# EAGLE library part ADAFRUIT-MAX31865 (library smoker-pid-control)
Adafruit MAX31865 RTD Sensor Breakout https://www.adafruit.com/product/3328
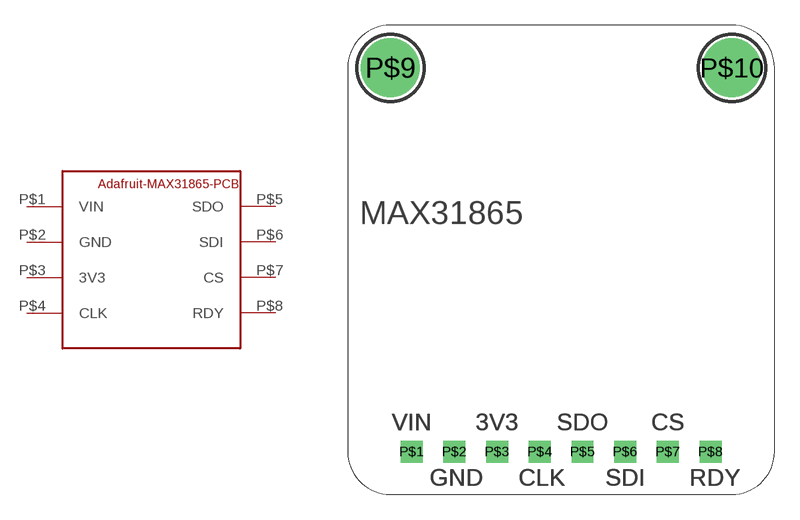
[diagram p1: symbol with the pads of MAX31865-BRD; footprint MAX31865-BRD]

Designator prefix -

## ADAFRUIT-MAX31865  [MAX31865-BRD]
P$1  VIN  pwr
P$2  GND  pwr
P$3  3V3  pwr
P$4  CLK
P$5  SDO
P$6  SDI
P$7  CS
P$8  RDY

## Footprint MAX31865-BRD (pad centres in mm)
drill 0.8 square: P$1 -8.89,-11.43; P$2 -6.35,-11.43; P$3 -3.81,-11.43; P$4 -1.27,-11.43; P$5 1.27,-11.43; P$6 3.81,-11.43; P$7 6.35,-11.43; P$8 8.89,-11.43
drill 2.5 pad 3.2: P$9 -10.16,11.43; P$10 10.16,11.43